# Altium schematic symbol library Murata_Capacitors.SchLib: 9 symbols
Pins are listed as number, name and electrical type; pins without a type are passive.

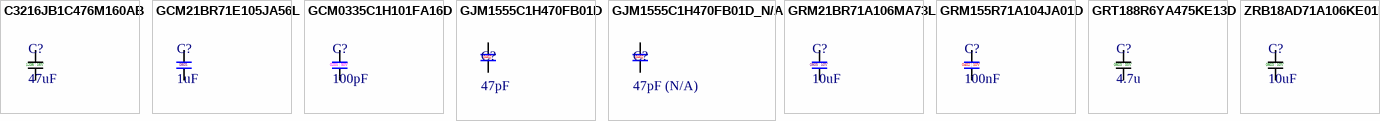
[diagram p0: symbols C3216JB1C476M160AB to ZRB18AD71A106KE01L]

## C3216JB1C476M160AB
designator C?, comment 47uF
47µF ±20% 16V JB Ceramic Capacitor -25°C ~ 85°C Surface Mount, MLCC 1206 (3216 Metric) 0.126" L x 0.063" W (3.20mm x 1.60mm); Manufacturer: TDK; Manufacturer Part Number: C3216JB1C476M160AB; Supplier 1: Digi-Key; Stock 1: 203837; Pricing 1: 1=1.2, 10=0.949, 100=0.7116, 500=0.53762, 1000=0.47438 (USD); Mount: Surface Mount; Case/Package: 1206; Case Code (Metric): 3216; Case Code (Imperial): 1206; Dielectric Material: Ceramic; Min Operating Temperature: -25°C; Max Operating Temperature: 85°C; Package Quantity: 1; Packaging: Tape and Reel; Capacitance: 47uF; Tolerance: 20%; Voltage Rating: 16V; Termination: SMD/SMT; Composition: Ceramic; Voltage Rating (DC): 16V; Length: 0.126inch; Height: 1.6mm; Width: 0.063inch; Thickness: 0.069inch; Lead Free: Lead Free; ComponentLink1URL: https://product.tdk.com/en/products/common/pdf/mlcc_partnumber_description.pdf; ComponentLink1Description: https://product.tdk.com/en/products/common/pdf/mlcc_partnumber_description.pdf; ComponentLink2URL: http://product.tdk.com/en/catalog/datasheets/mlcc_commercial_general_en.pdf; ComponentLink2Description: http://product.tdk.com/en/catalog/datasheets/mlcc_commercial_general_en.pdf; ComponentLink3URL: http://www.mouser.com/ds/2/400/lcc_commercial_general_en-837201.pdf; ComponentLink3Description: http://www.mouser.com/ds/2/400/lcc_commercial_general_en-837201.pdf
footprint MURATA C1206 / CAPC3216X94N (MURATA CAPC3216X94N)
pins: 1, 2
text: 1206 | 16V

## GCM21BR71E105JA56L
designator C?, comment 1uF
Multilayer Ceramic Capacitors MLCC - SMD/SMT 0805 1uF 25volts X7R 5%; Manufacturer: Murata Electronics; Manufacturer Part Number: GCM21BR71E105JA56L; Type: Automotive MLCCs; Voltage Rating DC: 25 VDC; Capacitance - nF: 1000 nF; Class: Class 2; Qualification: AEC-Q200; Supplier 1: Mouser; RoHS: RoHS Compliant; Category: Multilayer Ceramic Capacitors MLCC - SMD/SMT; Stock 1: 2648; Pricing 1: 1=0.251, 10=0.170, 100=0.097, 500=0.068, 1000=0.059, 3000=0.054 (USD); Capacitance: 1 uF; Height: 1.25 mm; Length: 2 mm; Package / Case: 0805 (2012 metric); Packaging: Cut Tape; Product: Automotive MLCCs; Series: GCM21; Termination Style: SMD/SMT; Tolerance: 5 %; Width: 1.25 mm; Brand: Murata Electronics; Case Code - in: 0805; Case Code - mm: 2012; Dielectric: X7R; Maximum Operating Temperature: + 125 C; Minimum Operating Temperature: - 55 C; Standard Pack Qty: 3000; Termination: -; RoHS - Mouser: Y; Minimum Order Quantity: 1; Reeling: True; ComponentLink1URL: http://www.mouser.com/ds/2/281/c03e-806517.pdf; ComponentLink1Description: http://www.mouser.com/ds/2/281/c03e-806517.pdf
footprint 0805 Murata GCM21 Series (Chip Capacitor, 2-Leads, Body 2.0x1.2mm, IPC Medium Density)
pins: 1, 2

## GCM0335C1H101FA16D
designator C?, comment 100pF
Manufacturer: Murata; Manufacturer Part Number: GCM0335C1H101FA16D; Supplier 1: Mouser; Stock 1: 0
footprint 0201 Capacitor Murata
pins: 1, 2
text: 0201 | 50V

## GJM1555C1H470FB01D
designator C?, comment 47pF
Multilayer Ceramic Capacitors MLCC - SMD/SMT; Manufacturer: Murata Electronics; Manufacturer Part Number: GJM1555C1H470FB01D; Tolerance: 1 %; Type: Chip Monolithic Ceramic Capacitor; Voltage Rating DC: 50 VDC; Dielectric: C0G (NP0); Supplier 1: Mouser; RoHS: RoHS Compliant; Category: Multilayer Ceramic Capacitors MLCC - SMD/SMT; Stock 1: 1413; Pricing 1: 1=0.221, 10=0.149, 100=0.076, 500=0.052, 1000=0.046, 2500=0.038, 5000=0.035, 10000=0.031 (USD); Capacitance: 47 pF; Height: 0.5 mm; Length: 1 mm; Package / Case: 0402 (1005 metric); Packaging: Cut Tape; Product: RF Microwave / High Q; Series: GJM; Termination Style: SMD/SMT; Width: 0.5 mm; Brand: Murata Electronics; Case Code - in: 0402; Case Code - mm: 1005; Maximum Operating Temperature: + 125 C; Minimum Operating Temperature: - 55 C; Standard Pack Qty: 10000; Termination: -; RoHS - Mouser: Y; Minimum Order Quantity: 1; Reeling: True; ComponentLink1URL: https://www.mouser.com/ds/2/281/c02e-1068346.pdf; ComponentLink1Description: https://www.mouser.com/ds/2/281/c02e-1068346.pdf
footprint GJM 0402 C (IPC Medium Density)
pins: 1, 2

## GJM1555C1H470FB01D_N/A
designator C?, comment 47pF (N/A)  (no BOM)
Multilayer Ceramic Capacitors MLCC - SMD/SMT; Manufacturer: Murata Electronics; Manufacturer Part Number: GJM1555C1H470FB01D; Tolerance: 1 %; Type: Chip Monolithic Ceramic Capacitor; Voltage Rating DC: 50 VDC; Dielectric: C0G (NP0); Supplier 1: Mouser; RoHS: RoHS Compliant; Category: Multilayer Ceramic Capacitors MLCC - SMD/SMT; Stock 1: 1413; Pricing 1: 1=0.221, 10=0.149, 100=0.076, 500=0.052, 1000=0.046, 2500=0.038, 5000=0.035, 10000=0.031 (USD); Capacitance: 47 pF; Height: 0.5 mm; Length: 1 mm; Package / Case: 0402 (1005 metric); Packaging: Cut Tape; Product: RF Microwave / High Q; Series: GJM; Termination Style: SMD/SMT; Width: 0.5 mm; Brand: Murata Electronics; Case Code - in: 0402; Case Code - mm: 1005; Maximum Operating Temperature: + 125 C; Minimum Operating Temperature: - 55 C; Standard Pack Qty: 10000; Termination: -; RoHS - Mouser: Y; Minimum Order Quantity: 1; Reeling: True; ComponentLink1URL: https://www.mouser.com/ds/2/281/c02e-1068346.pdf; ComponentLink1Description: https://www.mouser.com/ds/2/281/c02e-1068346.pdf
footprint GJM 0402 C (IPC Medium Density)
pins: 1, 2

## GRM21BR71A106MA73L
designator C?, comment 10uF
Multilayer Ceramic Capacitors MLCC - SMD/SMT 0805 10uF 10volts *Derate Voltage/Temp; Manufacturer: Murata Electronics; Manufacturer Part Number: GRM21BR71A106MA73L; Tolerance: 20 %; Type: Voltage and Temperature Derating Recommended Product; Voltage Rating DC: 10 VDC; Dielectric: X7R; Supplier 1: Mouser; RoHS: RoHS Compliant; Category: Multilayer Ceramic Capacitors MLCC - SMD/SMT; Stock 1: 19103; Pricing 1: 1=0.221, 10=0.146, 100=0.076, 500=0.051, 1000=0.045, 3000=0.038 (USD); Capacitance: 10 uF; Height: 1.25 mm; Length: 2 mm; Package / Case: 0805 (2012 metric); Packaging: Cut Tape; Product: General Type MLCCs; Series: GRM; Termination Style: SMD/SMT; Width: 1.25 mm; Brand: Murata Electronics; Case Code - in: 0805; Case Code - mm: 2012; Maximum Operating Temperature: + 125 C; Minimum Operating Temperature: - 55 C; Standard Pack Qty: 3000; RoHS - Mouser: Y; Minimum Order Quantity: 1; Reeling: True; ComponentLink1URL: https://www.mouser.com/ds/2/281/c02e-2905.pdf; ComponentLink1Description: https://www.mouser.com/ds/2/281/c02e-2905.pdf
footprint 0805 Murata GCM21 Series (Chip Capacitor, 2-Leads, Body 2.0x1.2mm, IPC Medium Density)
pins: 1, 2
text: 0805 | 10V

## GRM155R71A104JA01D
designator C?, comment 100nF
Multilayer Ceramic Capacitors MLCC - SMD/SMT 0402 0.1uF 10volts 5%; Manufacturer: Murata Electronics; Manufacturer Part Number: GRM155R71A104JA01D; Type: Chip Monolithic Ceramic Capacitor; Voltage Rating DC: 10 VDC; Capacitance - pF: 100000 pF; Dielectric: X7R; Supplier 1: Mouser; RoHS: RoHS Compliant; Category: Multilayer Ceramic Capacitors MLCC - SMD/SMT; Stock 1: 376; Pricing 1: 1=0.100, 10=0.024, 100=0.011, 500=0.008, 1000=0.006, 5000=0.005, 10000=0.004 (USD); Capacitance: 0.1 uF; Height: 0.5 mm; Length: 1 mm; Package / Case: 0402 (1005 metric); Packaging: Cut Tape; Product: General Type MLCCs; Series: GRM; Termination Style: SMD/SMT; Tolerance: 5 %; Width: 0.5 mm; Brand: Murata Electronics; Capacitance - nF: 100 nF; Case Code - in: 0402; Case Code - mm: 1005; Maximum Operating Temperature: + 125 C; Minimum Operating Temperature: - 55 C; Standard Pack Qty: 10000; RoHS - Mouser: Y; Minimum Order Quantity: 1; Reeling: True; ComponentLink1URL: https://www.mouser.com/ds/2/281/c02e-2905.pdf; ComponentLink1Description: https://www.mouser.com/ds/2/281/c02e-2905.pdf
footprint GJM 0402 C (IPC Medium Density)
pins: 1, 2
text: 0402 | 10V

## GRT188R6YA475KE13D
designator C?, comment 4.7u
4.7µF 35V Ceramic Capacitor X5R 0603 (1608 Metric) 0.063" L x 0.031" W (1.60mm x 0.80mm); Manufacturer: Murata; Manufacturer Part Number: GRT188R6YA475KE13D; Capacitance: 4.7uF; Tolerance: 10%; Supplier 1: Mouser; Stock 1: 292; Pricing 1: 10000=0.133 (USD); Mount: Surface Mount; Case/Package: 0603; Case Code (Metric): 1608; Case Code (Imperial): 0603; Min Operating Temperature: -55°C; Max Operating Temperature: 85°C; Packaging: Tape and Reel; Voltage Rating: 35V; Length: 0.063inch; Width: 0.031inch; Thickness: 0.035inch; ComponentLink1URL: http://search.murata.co.jp/Ceramy/image/img/A01X/G101/ENG/GRT188R6YA475KE13-01.pdf; ComponentLink1Description: http://search.murata.co.jp/Ceramy/image/img/A01X/G101/ENG/GRT188R6YA475KE13-01.pdf
footprint 0603 Murata (IPC Medium Density)
pins: 1, 2
text: 0603 | 35V

## ZRB18AD71A106KE01L
designator C?, comment 10uF
Multilayer Ceramic Capacitors MLCC - SMD/SMT 0603 10uF 10volts X7T +/-10% Soft Term; Manufacturer: Murata Electronics; Manufacturer Part Number: ZRB18AD71A106KE01L; Tolerance: 10 %; Type: Chip Monolithic Ceramic Capacitor on Interposer for General; Voltage Rating DC: 10 VDC; Class: Class 2; Supplier 1: Mouser; RoHS: RoHS Compliant; Category: Multilayer Ceramic Capacitors MLCC - SMD/SMT; Stock 1: 41736; Pricing 1: 1=0.471, 10=0.330, 100=0.198, 500=0.149, 1000=0.126, 3000=0.104 (USD); Capacitance: 10 uF; Diameter: -; Height: 1 mm; Length: 1.6 mm; Package / Case: 0603 (1608 metric); Packaging: Cut Tape; Product: General Type MLCCs; Series: B; Termination Style: SMD/SMT; Width: 0.8 mm; Brand: Murata Electronics; Case Code - in: 0603; Case Code - mm: 1608; Dielectric: X7T; Maximum Operating Temperature: + 125 C; Minimum Operating Temperature: - 55 C; Standard Pack Qty: 3000; Termination: Interposer Substrate; RoHS - Mouser: Y; Minimum Order Quantity: 1; Reeling: True; ComponentLink1URL: https://www.mouser.com/ds/2/281/ZRB15XR60J106ME12-01-1065034.pdf; ComponentLink1Description: https://www.mouser.com/ds/2/281/ZRB15XR60J106ME12-01-1065034.pdf
footprint 0603 Murata (IPC Medium Density)
pins: 1, 2
text: 0603 | 10V